# Altium footprint library Mixer.PcbLib: 35 footprints (part 3 of 3)
Each footprint in its own frame and in the unit in brackets; x right, y up, seen from the top. Pads: shape width x height; smd on the part's side, far side on the other; paste and mask are expansions set on the pad; w line width, h text height; cw(c..) or ccw(c..) is an arc to the next point about the centre after c.
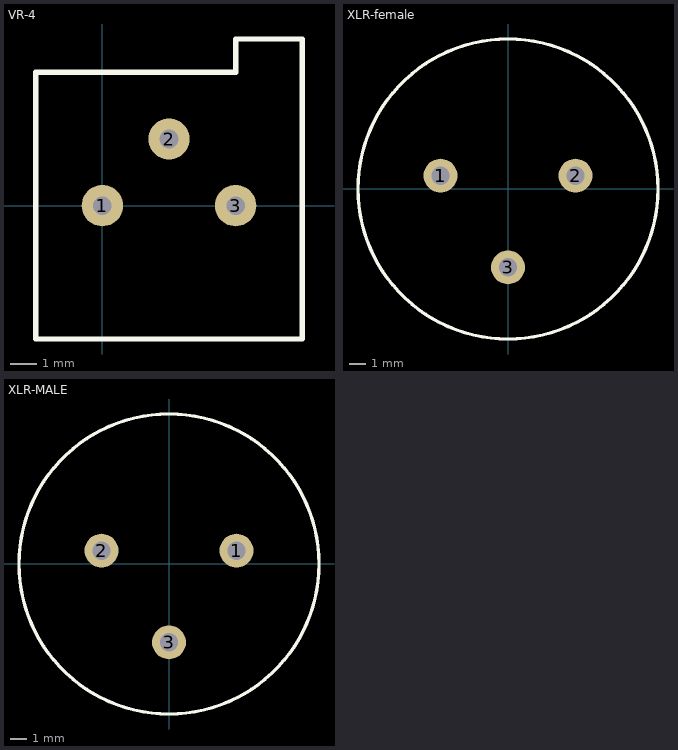
[diagram p2: the footprints below, top view; thin cyan lines are the x and y axes]

## VR-4 [mil]
pads (3):
  round 62 hole 28: 1(0,0) 2(100,100) 3(200,0)
TopOverlay:
  lines w8: -100,-200 -100,200 200,200 200,250 300,250 300,-200 -100,-200

## XLR-female [mm]
pads (3):
  round 2.032 on Top hole 1.1: 1(-4.05,0.8) 2(4.05,0.8) 3(0,-4.7)
TopOverlay:
  circle w0.203: c0,0 r9

## XLR-MALE [mm]
pads (3):
  round 2.032 on Top hole 1.1: 1(4.05,0.8) 2(-4.05,0.8) 3(0,-4.7)
TopOverlay:
  circle w0.203: c0,0 r9